# Altium footprint library PONTO DE TESTE.PcbLib: 6 footprints
Each footprint in its own frame and in the unit in brackets; x right, y up, seen from the top. Pads: shape width x height; smd on the part's side, far side on the other; paste and mask are expansions set on the pad; w line width, h text height; cw(c..) or ccw(c..) is an arc to the next point about the centre after c.
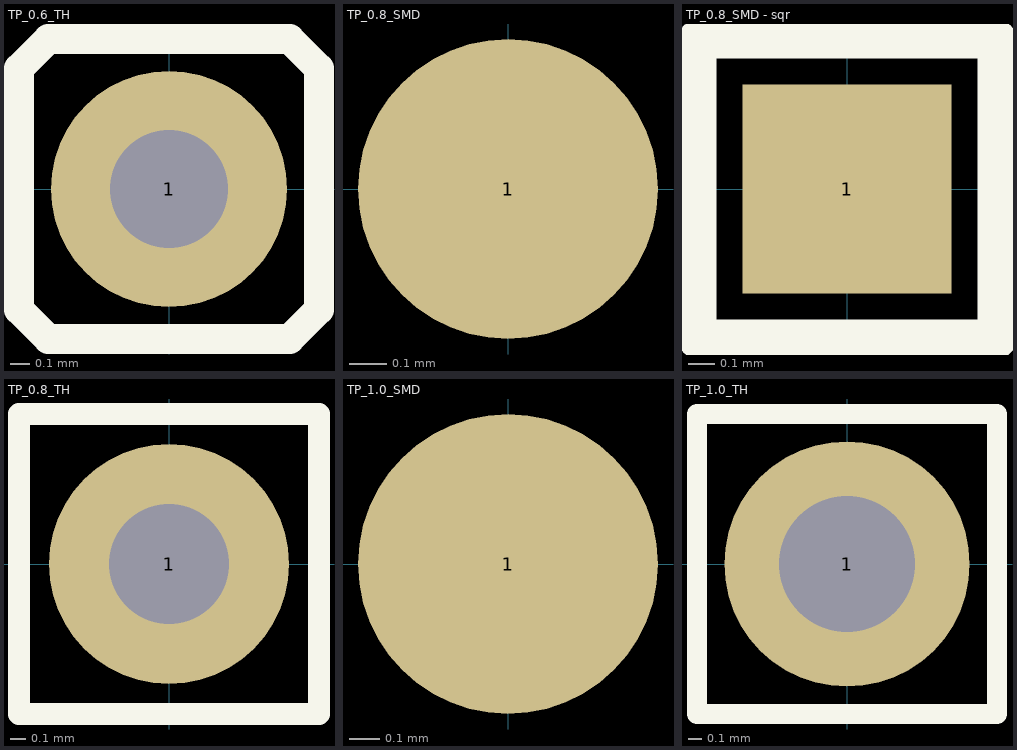
[diagram p0: the footprints below, top view; thin cyan lines are the x and y axes]

## TP_0.6_TH [mm] "PONTO DE TESTE DE 0.6mm"
pads (1):
  round 1.2 hole 0.6: 1(0,0)
Top Overlay:
  lines w0.15: -0.762,-0.613 -0.613,-0.762 ; -0.762,-0.588 -0.762,0.588 ; -0.762,0.613 -0.613,0.762 ; -0.588,-0.762 0.613,-0.762 0.762,-0.613 0.762,0.613 0.613,0.762 -0.588,0.762

## TP_0.8_SMD [mm]
pads (1):
  round 0.8 smd: 1(0,0)

## TP_0.8_SMD - sqr [mm] "PONTO DE TESTE DE 1.0mm"
pads (1):
  rect 0.8x0.8 all layers, no hole: 1(0,0)
Top Overlay:
  lines w0.15: -0.575,-0.575 -0.575,0.575 0.575,0.575 0.575,-0.575 -0.575,-0.575

## TP_0.8_TH [mm] "PONTO DE TESTE DE 0.8mm"
pads (1):
  round 1.6 hole 0.8: 1(0,0)
Top Overlay:
  lines w0.15: -1,-1 1,-1 1,1 -1,1 -1,-1

## TP_1.0_SMD [mm]
pads (1):
  round 1 smd: 1(0,0)

## TP_1.0_TH [mm] "PONTO DE TESTE DE 1.0mm"
pads (1):
  round 1.8 hole 1: 1(0,0)
Top Overlay:
  lines w0.15: -1.1,-1.1 1.1,-1.1 1.1,1.1 -1.1,1.1 -1.1,-1.1